# Altium schematic symbol library 1.1Schlib.SchLib: 1 symbol
Pins are listed as number, name and electrical type; pins without a type are passive.

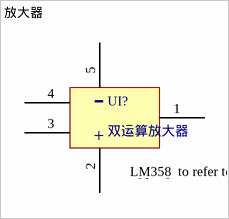
[diagram p0: symbol 放大器]

## 放大器
designator UI?, comment 双运算放大器
pins: 1 21, 2 22, 3 24, 4   , 5 GND
text: -; +; Type @ to refer to a designator or a net; LM358